# EAGLE library part P-06- (library con-headers-jp)
HEADER PLUG PINS
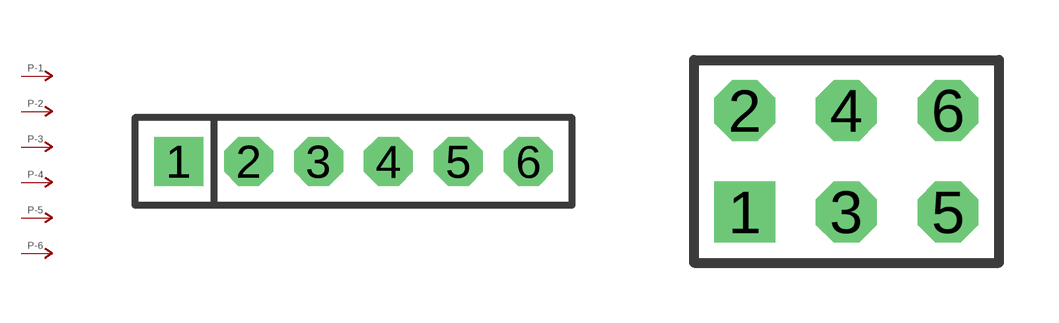
[diagram p10: symbol with the pads of SIP-100-06; footprints SIP-100-06, HDR-100-2X03]

Designator prefix P; gates -1=P-N -2=P-N -3=P-N -4=P-N -5=P-N -6=P-N

## P-06-SIP-100  [SIP-100-06]
1  -1:P  pas
2  -2:P  pas
3  -3:P  pas
4  -4:P  pas
5  -5:P  pas
6  -6:P  pas

## P-06-100-2X03  [HDR-100-2X03]
Pads as for SIP-100-06

## P-06-100-2X03_M  [HDR-100-2X03_M]
Pads as for SIP-100-06

## P-06-2MM-2X03  [HDR-2MM-2X03]
Pads as for SIP-100-06

## P-06-2MM-2X03_M  [HDR-2MM-2X03_M]
Pads as for SIP-100-06

## Footprint SIP-100-06 (pad centres in mm)
SIP Header - 0.1"
drill 0.914 pad 1.778 square: 1 -6.35,0
drill 0.914 pad 1.778 octagon: 2 -3.81,0; 3 -1.27,0; 4 1.27,0; 5 3.81,0; 6 6.35,0

## Footprint HDR-100-2X03 (pad centres in mm)
PIN HEADER - 0.1"
drill 1.016 square: 1 -2.54,-1.27
drill 1.016 octagon: 2 -2.54,1.27; 3 0,-1.27; 4 0,1.27; 5 2.54,-1.27; 6 2.54,1.27

## Footprint HDR-100-2X03_M (pad centres in mm)
PIN HEADER - 0.1" - MIRRORED
drill 1.016 square: 1 -2.54,1.27
drill 1.016 octagon: 2 -2.54,-1.27; 3 0,1.27; 4 0,-1.27; 5 2.54,1.27; 6 2.54,-1.27

## Footprint HDR-2MM-2X03 (pad centres in mm)
PIN HEADER - 2MM"
drill 0.914 square: 1 -2,-1
drill 0.914 round: 2 -2,1; 3 0,-1; 4 0,1; 5 2,-1; 6 2,1

## Footprint HDR-2MM-2X03_M (pad centres in mm)
PIN HEADER - 2MM - MIRRORED
drill 0.914 square: 1 -2,1
drill 0.914 round: 2 -2,-1; 3 0,1; 4 0,-1; 5 2,1; 6 2,-1